# EAGLE library part ACT2861QI201-T (library ICs)
30V Buck-Boost Charger with Integrated MOSFETs and OTG
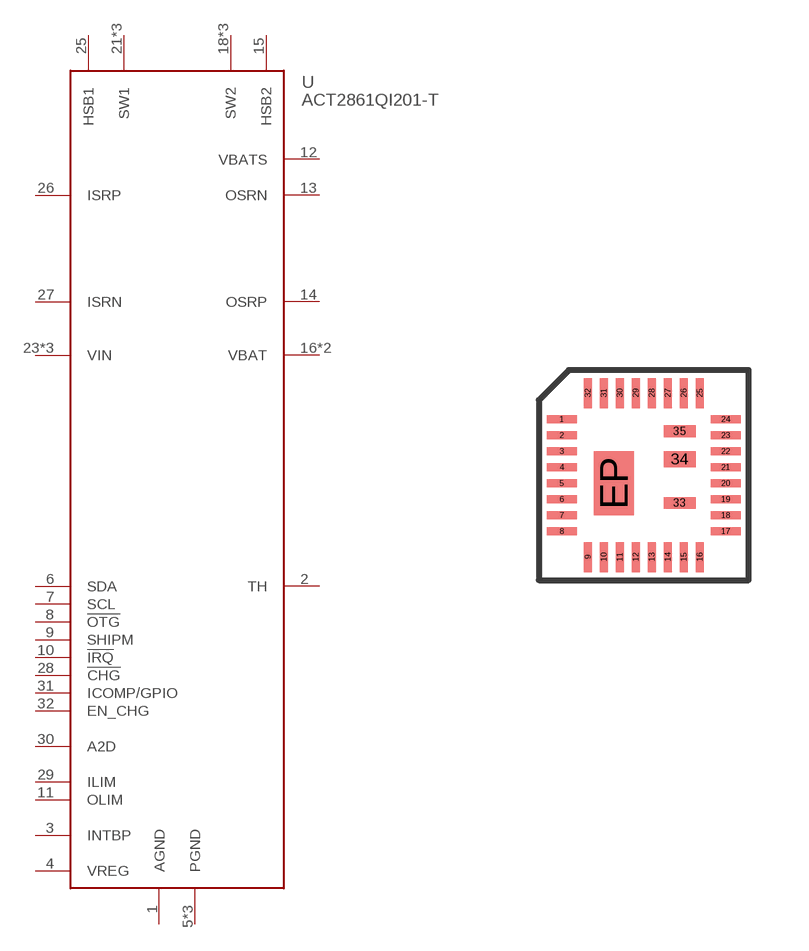
[diagram p243: symbol with the pads of QFN32-ACT2861; footprint QFN32-ACT2861]

Designator prefix U

## ACT2861QI201-T (DIGIKEY: 1488-1114-1-ND; HEIGHT: 1; PRICE_PER: 2.76; VALUE: ACT2861QI201-T)  [QFN32-ACT2861]
1  AGND
2  TH
3  INTBP
4  VREG
5  PGND
6  SDA
7  SCL
8  !OTG
9  SHIPM
10  !IRQ
11  OLIM
12  VBATS
13  OSRN
14  OSRP
15  HSB2
16  VBAT
17  VBAT
18  SW2
19  SW2
20  PGND
21  SW1
22  SW1
23  VIN
24  VIN
25  HSB1
26  ISRP
27  ISRN
28  !CHG
29  ILIM
30  A2D
31  ICOMP/GPIO
32  EN_CHG
33  SW2
34  SW1
35  VIN
EP  PGND

## Footprint QFN32-ACT2861 (pad centres in mm)
smd 0.75 x 0.2: 1 -2.05,1.4; 2 -2.05,1; 3 -2.05,0.6; 4 -2.05,0.2; 5 -2.05,-0.2; 6 -2.05,-0.6; 7 -2.05,-1; 8 -2.05,-1.4; 17 2.05,-1.4; 18 2.05,-1; 19 2.05,-0.6; 20 2.05,-0.2; 21 2.05,0.2; 22 2.05,0.6; 23 2.05,1; 24 2.05,1.4
smd 0.2 x 0.75: 9 -1.4,-2.05; 10 -1,-2.05; 11 -0.6,-2.05; 12 -0.2,-2.05; 13 0.2,-2.05; 14 0.6,-2.05; 15 1,-2.05; 16 1.4,-2.05; 25 1.4,2.05; 26 1,2.05; 27 0.6,2.05; 28 0.2,2.05; 29 -0.2,2.05; 30 -0.6,2.05; 31 -1,2.05; 32 -1.4,2.05
smd 0.8 x 0.29: 33 0.9,-0.695; 35 0.9,1.095
smd 0.8 x 0.4: 34 0.9,0.4
smd 1 x 1.6: EP -0.75,-0.2